# Altium footprint library CPAV.PcbLib: 150 footprints (part 7 of 10)
Each footprint in its own frame and in the unit in brackets; x right, y up, seen from the top. Pads: shape width x height; smd on the part's side, far side on the other; paste and mask are expansions set on the pad; w line width, h text height; cw(c..) or ccw(c..) is an arc to the next point about the centre after c.
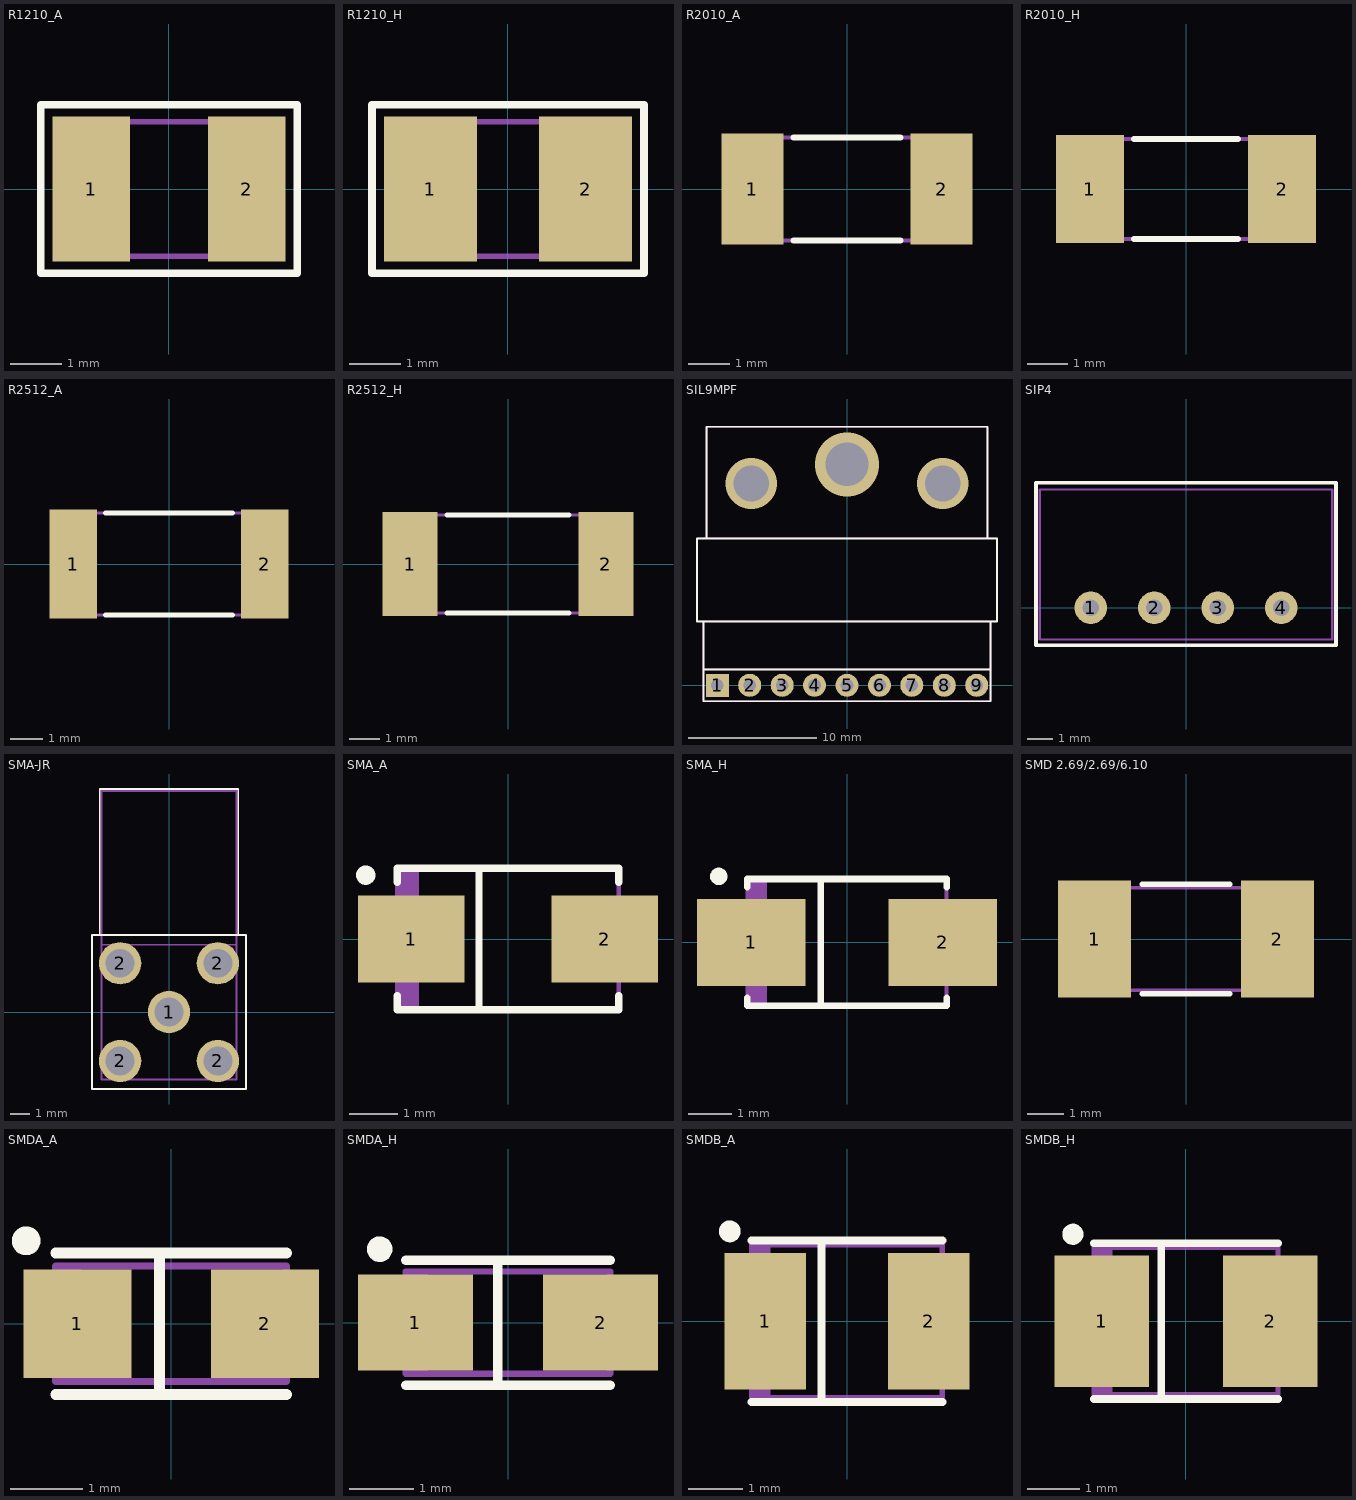
[diagram p6: the footprints below, top view; thin cyan lines are the x and y axes]

## R1210_A [mm]
height 0.55
pads (2):
  rect 1.5x2.8 smd: 1(-1.5,0) 2(1.5,0)
Top Overlay:
  lines w0.15: -2.48,-1.63 2.48,-1.63 2.48,1.63 -2.48,1.63 -2.48,-1.63
Mechanical 7:
  lines w0.1: -1.55,-1.3 -1.55,1.3 1.55,1.3 1.55,-1.3 -1.55,-1.3
Mechanical 10:
  text ".Designator" at -0.71,1.89 h0.8
  text ".Comment" at -0.76,-2.28 h0.6
3D body: height 0.55, standoff 0, extent -1.55,-1.3 1.55,1.3

## R1210_H [mm]
height 0.55
pads (2):
  rect 1.8x2.8 smd: 1(-1.5,0) 2(1.5,0)
Top Overlay:
  lines w0.15: -2.63,-1.63 2.63,-1.63 2.63,1.63 -2.63,1.63 -2.63,-1.63
Mechanical 7:
  lines w0.1: -1.55,-1.3 1.55,-1.3 1.55,1.3 -1.55,1.3 -1.55,-1.3
Mechanical 10:
  text ".Designator" at -0.71,1.89 h0.8
  text ".Comment" at -0.81,-2.25 h0.6
3D body: height 0.55, standoff 0, extent -1.55,-1.3 1.55,1.3

## R2010_A [mm]
height 0.55
pads (2):
  rect 1.5x2.7 smd: 1(-2.3,0) 2(2.3,0)
Top Overlay:
  lines w0.15: -1.3,-1.25 1.3,-1.25 ; -1.3,1.25 1.3,1.25
Mechanical 7:
  lines w0.1: -2.5,-1.25 -2.5,1.25 2.5,1.25 2.5,-1.25 -2.5,-1.25
Mechanical 10:
  text ".Designator" at -0.5,1.85 h0.8
  text ".Comment" at -0.46,-2 h0.6
3D body: height 0.55, standoff 0, extent -2.5,-1.25 2.5,1.25

## R2010_H [mm]
height 0.55
pads (2):
  rect 1.7x2.7 smd: 1(-2.4,0) 2(2.4,0)
Top Overlay:
  lines w0.15: -1.3,-1.25 1.3,-1.25 ; -1.3,1.25 1.3,1.25
Mechanical 7:
  lines w0.1: -2.5,-1.25 2.5,-1.25 2.5,1.25 -2.5,1.25 -2.5,-1.25
Mechanical 10:
  text ".Designator" at -0.5,1.85 h0.8
  text ".Comment" at -0.48,-2.04 h0.6
3D body: height 0.55, standoff 0, extent -2.5,-1.25 2.5,1.25

## R2512_A [mm]
height 0.55
pads (2):
  rect 1.5x3.4 smd: 1(-3,0) 2(3,0)
Top Overlay:
  lines w0.15: -2,-1.6 2,-1.6 ; -2,1.6 2,1.6
Mechanical 7:
  lines w0.1: -3.175,-1.6 3.175,-1.6 3.175,1.6 -3.175,1.6 -3.175,-1.6
Mechanical 10:
  text ".Comment" at -0.5,-2.32 h0.6
  text ".Designator" at -0.51,1.96 h0.8
3D body: height 0.55, standoff 0, extent -3.175,-1.6 3.175,1.6

## R2512_H [mm]
height 0.55
pads (2):
  rect 1.8x3.4 smd: 1(-3.2,0) 2(3.2,0)
Top Overlay:
  lines w0.15: -2,-1.6 2,-1.6 ; -2,1.6 2,1.6
Mechanical 7:
  lines w0.1: -3.175,-1.6 -3.175,1.6 3.175,1.6 3.175,-1.6 -3.175,-1.6
Mechanical 10:
  text ".Designator" at -0.51,1.96 h0.8
  text ".Comment" at -0.57,-2.39 h0.6
3D body: height 0.55, standoff 0, extent -3.175,-1.6 3.175,1.6

## SIL9MPF [mm] "plastic single in-line medium power package with fin"
height 18.5
pads (9):
  rect 1.8x1.8 hole 1: 1(-10.16,0)
  round 1.8 hole 1: 2(-7.62,0) 3(-5.08,0) 4(-2.54,0) 5(0,0) 6(2.54,0) 7(5.08,0) 8(7.62,0) 9(10.16,0)
via 0,17.3 diameter 5 hole 3.4
via 7.5,15.8 diameter 4 hole 2.8
via -7.5,15.8 diameter 4 hole 2.8
Top Overlay:
  lines w0.15: -11.25,1.25 -11.25,1.5 -11.25,5 ; -11.25,1.25 11.25,1.25 ; -11.25,1.25 -11.25,-1.25 11.25,-1.25 11.25,1.25 ; -11.25,5 -11.75,5 -11.75,11.5 -11,11.5 ; -11.25,5 11.25,5 ; -11,11.5 -11,20.25 11,20.25 11,11.5 ; -11,11.5 11,11.5 ; 11,11.5 11.75,11.5 11.75,5 11.25,5 ; 11.25,1.25 11.25,5
Mechanical 7:
  lines w0.1: -11,11.5 -11,20.25 11,20.25 11,12.5 11,11.5 ; -11.25,1.25 11.25,1.25 ; -11.25,1.25 -11.25,-1.25 11.25,-1.25 11.25,1.25 ; -11.25,1.25 -11.25,5 ; -11.25,5 11.25,5 ; -11.25,5 -11.75,5 -11.75,11.5 -11.25,11.5 11.25,11.5 11.75,11.5 11.75,5 11.25,5 ; 11.25,1.25 11.25,5
3D body: height 2, standoff 1.5, extent 9.748,-0.272 10.573,4.953
3D body: height 2, standoff 1.5, extent 7.208,-0.272 8.033,4.953
3D body: height 2, standoff 1.5, extent 4.668,-0.272 5.493,4.953
3D body: height 2, standoff 1.5, extent 2.128,-0.272 2.953,4.953
3D body: height 2, standoff 1.5, extent -0.412,-0.272 0.413,4.953
3D body: height 2, standoff 1.5, extent -2.952,-0.272 -2.127,4.953
3D body: height 2, standoff 1.5, extent -5.492,-0.272 -4.667,4.953
3D body: height 2, standoff 1.5, extent -8.032,-0.272 -7.207,4.953
3D body: height 2, standoff 1.5, extent -10.572,-0.272 -9.747,4.953
3D body: height 1.5, standoff -1.5, extent 9.745,-0.25 10.57,0.25
3D body: height 1.5, standoff -1.5, extent 7.205,-0.25 8.03,0.25
3D body: height 1.5, standoff -1.5, extent 4.665,-0.25 5.49,0.25
3D body: height 1.5, standoff -1.5, extent 2.125,-0.25 2.95,0.25
3D body: height 1.5, standoff -1.5, extent -0.415,-0.25 0.41,0.25
3D body: height 1.5, standoff -1.5, extent -2.955,-0.25 -2.13,0.25
3D body: height 1.5, standoff -1.5, extent -5.495,-0.25 -4.67,0.25
3D body: height 1.5, standoff -1.5, extent -8.032,-0.25 -7.207,0.25
3D body: height 1.5, standoff -1.5, extent -10.575,-0.25 -9.75,0.25
3D body: height 0.5, standoff 0, extent -11,11.5 11,20.25
3D body: height 3.7, standoff 0, extent -11.75,5 11.75,11.5

## SIP4 [mm]
pads (4):
  round 1.3 hole 0.65: 1(-3.81,0) 2(-1.27,0) 3(1.27,0) 4(3.81,0)
Top Overlay:
  lines w0.15: -6,-1.5 -6,5 6,5 6,-1.5 -6,-1.5
Mechanical 7:
  lines w0.1: -5.85,-1.27 5.85,-1.27 5.85,4.73 -5.85,4.73 -5.85,-1.27
Mechanical 10:
  text ".Designator" at -1.9,5.7 h0.8
  text ".Comment" at -1.8,-2.6 h0.6
3D body: height 10, standoff 0.5, extent -5.85,-1.27 5.85,4.73
3D body: height 0.5, standoff 0, extent -5.85,-1.27 -5.3,4.73
3D body: height 0.5, standoff 0, extent 5.3,-1.27 5.85,4.73

## SMA-JR [mm]
pads (5):
  round 2.2 hole 1.5: 1(0,0) 2(-2.54,-2.54) 2(-2.54,2.54) 2(2.54,-2.54) 2(2.54,2.54)
Top Overlay:
  lines w0.1: -3.6,4 -3.6,11.6 3.6,11.6 3.6,4 ; -4,-4 -4,4 4,4 4,-4 -4,-4
Mechanical 7:
  lines w0.1: -3.5,3.5 -3.5,-3.5 3.5,-3.5 3.5,3.5 ; -3.5,3.5 3.5,3.5 ; -3.5,3.5 -3.5,11.5 3.5,11.5 3.5,3.5
3D body: height 9.49, standoff 2.51, extent -3.472,3.5 3.5,11.5
3D body: height 10, standoff 0.1, extent -3.5,-3.5 3.5,3.5

## SMA_A [mm]
height 2.67
pads (2):
  rect 2.2x1.8 smd: 1(-2,0) 2(2,0)
Top Overlay:
  circle w0.2: c-2.94,1.32 r0.1
  lines w0.15: -2.29,-1.17 -2.29,-1.46 2.29,-1.46 2.29,-1.17 ; -2.29,1.17 -2.29,1.46 2.29,1.46 2.29,1.17 ; -0.6,-1.45 -0.6,1.45
Mechanical 7:
  lines w0.1: -2.29,-0.82 -2.8,-0.82 -2.8,0.82 -2.29,0.82 ; -2.19,-1.44 -2.19,1.46 ; -2.09,-1.44 -2.09,1.46 ; -1.99,-1.44 -1.99,1.46 ; -1.89,-1.44 -1.89,1.46 ; 2.29,-0.82 2.8,-0.82 2.8,0.82 2.29,0.82 ; -2.29,-1.46 2.29,-1.46 2.29,1.46 -2.29,1.46 -2.29,-1.46
Mechanical 10:
  text ".Designator" at -1.12,1.81 h0.8
  text ".Comment" at -0.88,-2.11 h0.6
3D body: height 2.87, standoff 0, extent -2.29,-1.46 2.29,1.46
3D body: height 2, standoff 0, extent -2.8,-0.82 -2.29,0.82
3D body: height 2, standoff 0, extent 2.29,-0.82 2.8,0.82

## SMA_H [mm]
height 2.67
pads (2):
  rect 2.5x2 smd: 1(-2.2,0) 2(2.2,0)
Top Overlay:
  circle w0.2: c-2.95,1.52 r0.1
  lines w0.15: -2.29,-1.27 -2.29,-1.46 2.29,-1.46 2.29,-1.27 ; -2.29,1.27 -2.29,1.46 2.29,1.46 2.29,1.27 ; -0.6,-1.45 -0.6,1.45
Mechanical 7:
  lines w0.1: -2.29,-0.82 -2.8,-0.82 -2.8,0.82 -2.29,0.82 ; -2.19,-1.44 -2.19,1.46 ; -2.09,-1.44 -2.09,1.46 ; -1.99,-1.44 -1.99,1.46 ; -1.89,-1.44 -1.89,1.46 ; 2.29,-0.82 2.8,-0.82 2.8,0.82 2.29,0.82 ; -2.29,-1.46 2.29,-1.46 2.29,1.46 -2.29,1.46 -2.29,-1.46
Mechanical 10:
  text ".Designator" at -1.12,1.81 h0.8
  text ".Comment" at -0.88,-2.11 h0.6
3D body: height 2.87, standoff 0, extent -2.29,-1.46 2.29,1.46
3D body: height 2, standoff 0, extent -2.8,-0.82 -2.29,0.82
3D body: height 2, standoff 0, extent 2.29,-0.82 2.8,0.82

## SMD 2.69/2.69/6.10 [mm]
pads (2):
  rect 2x3.2 smd: 1(-2.5,0) 2(2.5,0)
Top Overlay:
  lines w0.15: -1.2,-1.5 1.2,-1.5 ; -1.2,1.5 1.2,1.5
Mechanical 7:
  lines w0.1: -3.1,-1.4 3.1,-1.4 3.1,1.4 -3.1,1.4 -3.1,-1.4
3D body: height 2.69, standoff 0, extent -3.1,-1.4 3.1,1.4

## SMDA_A [mm]
height 1.6
pads (2):
  rect 1.5x1.5 smd: 1(-1.3,0) 2(1.3,0)
Top Overlay:
  circle w0.2: c-2.01,1.15 r0.1
  lines w0.15: -1.6,-0.98 1.6,-0.98 ; -1.6,0.98 1.6,0.98 ; -0.16,-0.98 -0.16,0.98
Mechanical 7:
  lines w0.1: -1.5,-0.8 -1.5,0.8 ; -1.4,-0.8 -1.4,0.8 ; -1.3,-0.8 -1.3,0.8 ; -1.6,-0.8 1.6,-0.8 1.6,0.8 -1.6,0.8 -1.6,-0.8
Mechanical 10:
  text ".Comment" at -0.88,-1.58 h0.6
  text ".Designator" at -0.84,1.25 h0.8
3D body: height 1.6, standoff 0, extent -1.6,-0.8 1.6,0.8

## SMDA_H [mm]
height 1.6
pads (2):
  rect 1.8x1.5 smd: 1(-1.45,0) 2(1.45,0)
Top Overlay:
  circle w0.2: c-2.01,1.15 r0.1
  lines w0.15: -1.6,-0.98 1.6,-0.98 ; -1.6,0.98 1.6,0.98 ; -0.16,-0.98 -0.16,0.98
Mechanical 7:
  lines w0.1: -1.5,-0.8 -1.5,0.8 ; -1.4,-0.8 -1.4,0.8 ; -1.3,-0.8 -1.3,0.8 ; -1.6,-0.8 1.6,-0.8 1.6,0.8 -1.6,0.8 -1.6,-0.8
Mechanical 10:
  text ".Comment" at -0.92,-1.56 h0.6
  text ".Designator" at -0.84,1.25 h0.8
3D body: height 1.6, standoff 0, extent -1.6,-0.8 1.6,0.8

## SMDB_A [mm]
height 1.9
pads (2):
  rect 1.5x2.5 smd: 1(-1.5,0) 2(1.5,0)
Top Overlay:
  circle w0.2: c-2.15,1.65 r0.1
  lines w0.15: -1.75,-1.48 1.75,-1.48 ; -1.75,1.48 1.75,1.48 ; -0.47,-1.48 -0.47,1.48
Mechanical 7:
  lines w0.1: -1.65,-1.4 -1.65,1.4 ; -1.55,-1.4 -1.55,1.4 ; -1.45,-1.4 -1.45,1.4 ; -1.75,-1.4 1.75,-1.4 1.75,1.4 -1.75,1.4 -1.75,-1.4
Mechanical 10:
  text ".Comment" at -1.02,-2.08 h0.6
  text ".Designator" at -0.9,1.7 h0.8
3D body: height 1.9, standoff 0, extent -1.75,-1.4 1.75,1.4

## SMDB_H [mm]
height 1.9
pads (2):
  rect 1.8x2.5 smd: 1(-1.6,0) 2(1.6,0)
Top Overlay:
  circle w0.2: c-2.15,1.65 r0.1
  lines w0.15: -1.75,-1.48 1.75,-1.48 ; -1.75,1.48 1.75,1.48 ; -0.47,-1.48 -0.47,1.48
Mechanical 7:
  lines w0.1: -1.65,-1.4 -1.65,1.4 ; -1.55,-1.4 -1.55,1.4 ; -1.45,-1.4 -1.45,1.4 ; -1.75,-1.4 1.75,-1.4 1.75,1.4 -1.75,1.4 -1.75,-1.4
Mechanical 10:
  text ".Comment" at -1.08,-2.08 h0.6
  text ".Designator" at -0.9,1.7 h0.8
3D body: height 1.9, standoff 0, extent -1.75,-1.4 1.75,1.4